# Altium schematic symbol library digital_memory.SchLib: 10 symbols
Pins are listed as number, name and electrical type; pins without a type are passive.

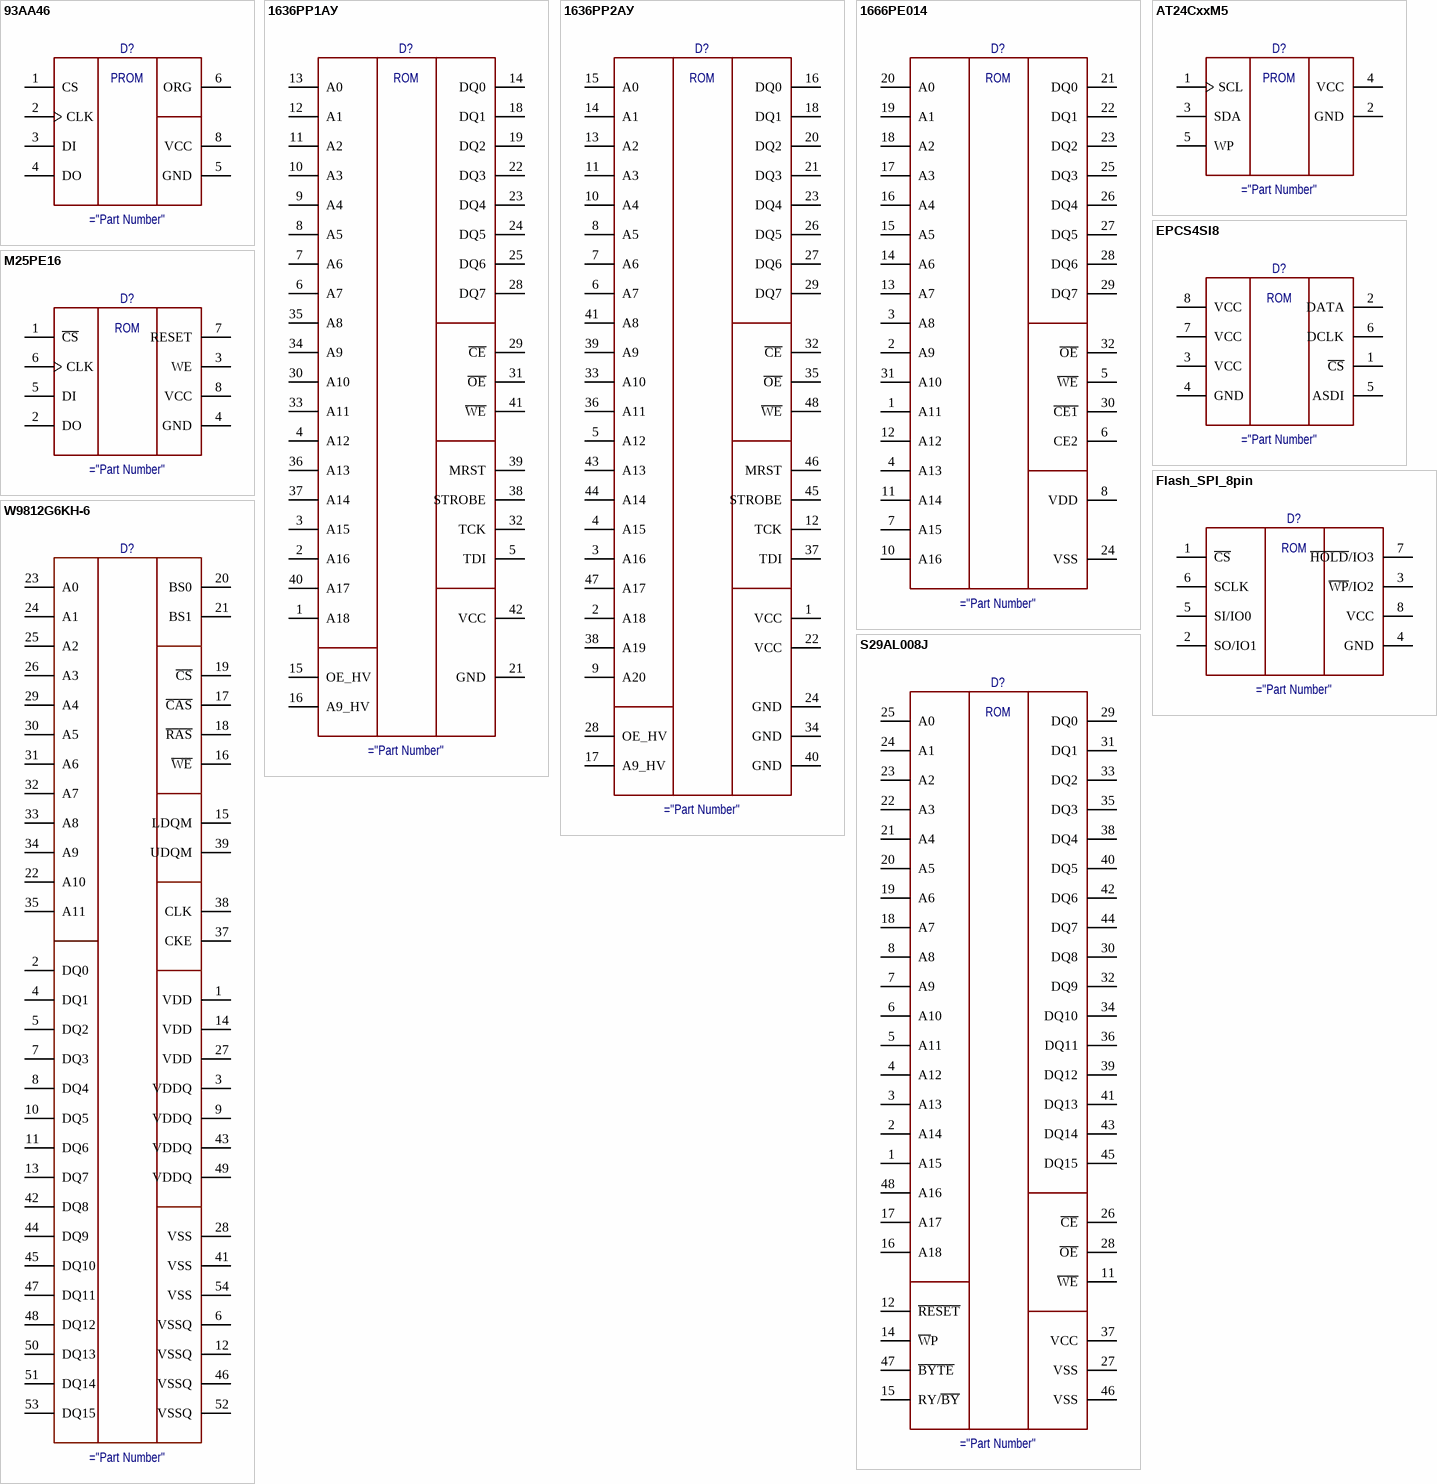
[diagram p0: symbols 93AA46 to W9812G6KH-6]

## 93AA46
designator D?
Serial EEPROM
pins: 1 CS, 2 CLK, 3 DI, 4 DO, 5 GND, 6 ORG, 7 NC hidden, 8 VCC
text: PROM

## 1636PP1АУ
designator D?
FLASH 4 Mbit
pins: 1 A18, 2 A16, 3 A15, 4 A12, 5 TDI, 6 A7, 7 A6, 8 A5, 9 A4, 10 A3, 11 A2, 12 A1, 13 A0, 14 DQ0, 15 OE_HV, 16 A9_HV, 17 NC hidden, 18 DQ1, 19 DQ2, 20 NC hidden, 21 GND, 22 DQ3, 23 DQ4, 24 DQ5, 25 DQ6, 26 NC hidden, 27 NC hidden, 28 DQ7, 29 ~{CE}, 30 A10, 31 ~{OE}, 32 TCK, 33 A11, 34 A9, 35 A8, 36 A13, 37 A14, 38 STROBE, 39 MRST, 40 A17, 41 ~{WE}, 42 VCC
text: ROM

## 1636PP2АУ
designator D?
FLASH 16 Mbit
pins: 1 VCC, 2 A18, 3 A16, 4 A15, 5 A12, 6 A7, 7 A6, 8 A5, 9 A20, 10 A4, 11 A3, 12 TCK, 13 A2, 14 A1, 15 A0, 16 DQ0, 17 A9_HV, 18 DQ1, 19 NC hidden, 20 DQ2, 21 DQ3, 22 VCC, 23 DQ4, 24 GND, 25 NC hidden, 26 DQ5, 27 DQ6, 28 OE_HV, 29 DQ7, 30 NC hidden, 31 NC hidden, 32 ~{CE}, 33 A10, 34 GND, 35 ~{OE}, 36 A11, 37 TDI, 38 A19, 39 A9, 40 GND, 41 A8, 42 NC hidden, 43 A13, 44 A14, 45 STROBE, 46 MRST, 47 A17, 48 ~{WE}
text: ROM

## 1666РЕ014
designator D?
FRAM 1 Mbit
pins: 1 A11, 2 A9, 3 A8, 4 A13, 5 ~{WE}, 6 CE2, 7 A15, 8 VDD, 9 NC hidden, 10 A16, 11 A14, 12 A12, 13 A7, 14 A6, 15 A5, 16 A4, 17 A3, 18 A2, 19 A1, 20 A0, 21 DQ0, 22 DQ1, 23 DQ2, 24 VSS, 25 DQ3, 26 DQ4, 27 DQ5, 28 DQ6, 29 DQ7, 30 ~{CE1}, 31 A10, 32 ~{OE}
text: ROM

## AT24CxxM5
designator D?
Serial EEPROM
pins: 1 SCL, 2 GND, 3 SDA, 4 VCC, 5 WP
text: PROM

## EPCS4SI8
designator D?
FPGA. Config Mem
pins: 1 ~{CS}, 2 DATA, 3 VCC, 4 GND, 5 ASDI, 6 DCLK, 7 VCC, 8 VCC
text: ROM

## Flash_SPI_8pin
designator D?
SPI FLASH 8 Pin
pins: 1 ~{CS}, 2 SO/IO1, 3 ~{WP}/IO2, 4 GND, 5 SI/IO0, 6 SCLK, 7 ~{HOLD}/IO3, 8 VCC
text: ROM

## M25PE16
designator D?
16Mb, Serial FLASH Memory, 75 MHz
pins: 1 ~{CS}, 2 DO, 3 WE, 4 GND, 5 DI, 6 CLK, 7 NC hidden, 7 RESET, 8 VCC
text: ROM

## S29AL008J
designator D?
FLASH 8 Mbit
pins: 1 A15, 2 A14, 3 A13, 4 A12, 5 A11, 6 A10, 7 A9, 8 A8, 9 NC hidden, 10 NC hidden, 11 ~{WE}, 12 ~{RESET}, 13 NC hidden, 14 ~{W}P, 15 RY/~{BY}, 16 A18, 17 A17, 18 A7, 19 A6, 20 A5, 21 A4, 22 A3, 23 A2, 24 A1, 25 A0, 26 ~{CE}, 27 VSS, 28 ~{OE}, 29 DQ0, 30 DQ8, 31 DQ1, 32 DQ9, 33 DQ2, 34 DQ10, 35 DQ3, 36 DQ11, 37 VCC, 38 DQ4, 39 DQ12, 40 DQ5, 41 DQ13, 42 DQ6, 43 DQ14, 44 DQ7, 45 DQ15, 46 VSS, 47 ~{BYTE}, 48 A16
text: ROM

## W9812G6KH-6
designator D?
SDRAM, 4MB
pins: 1 VDD, 2 DQ0, 3 VDDQ, 4 DQ1, 5 DQ2, 6 VSSQ, 7 DQ3, 8 DQ4, 9 VDDQ, 10 DQ5, 11 DQ6, 12 VSSQ, 13 DQ7, 14 VDD, 15 LDQM, 16 ~{WE}, 17 ~{CAS}, 18 ~{RAS}, 19 ~{CS}, 20 BS0, 21 BS1, 22 A10, 23 A0, 24 A1, 25 A2, 26 A3, 27 VDD, 28 VSS, 29 A4, 30 A5, 31 A6, 32 A7, 33 A8, 34 A9, 35 A11, 37 CKE, 38 CLK, 39 UDQM, 41 VSS, 42 DQ8, 43 VDDQ, 44 DQ9, 45 DQ10, 46 VSSQ, 47 DQ11, 48 DQ12, 49 VDDQ, 50 DQ13, 51 DQ14, 52 VSSQ, 53 DQ15, 54 VSS